# EAGLE library part ESP32-DEVKITC-32E (library freenove esp32 s3)
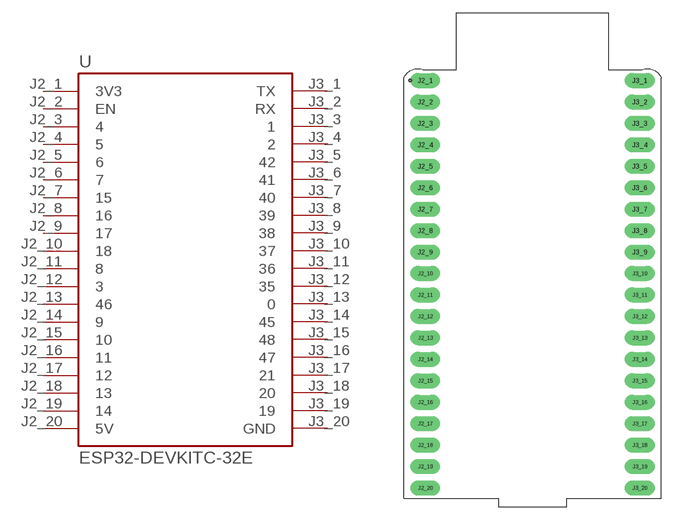
[diagram p0: symbol with the pads of MODULE_ESP32-DEVKITC-32E; footprint MODULE_ESP32-DEVKITC-32E]

Designator prefix U

## ESP32-DEVKITC-32E  [MODULE_ESP32-DEVKITC-32E]
J2_1  3V3  pwr
J2_2  EN  in
J2_3  4
J2_4  5
J2_5  6
J2_6  7
J2_7  15
J2_8  16
J2_9  17
J2_10  18
J2_11  8
J2_12  3
J2_13  46
J2_14  9  pwr
J2_15  10
J2_16  11
J2_17  12
J2_18  13
J2_19  14  pwr
J2_20  5V  pwr
J3_1  TX  pwr
J3_2  RX
J3_3  1
J3_4  2
J3_5  42
J3_6  41
J3_7  40  pwr
J3_8  39
J3_9  38
J3_10  37
J3_11  36
J3_12  35
J3_13  0
J3_14  45
J3_15  48
J3_16  47
J3_17  21
J3_18  20
J3_19  19
J3_20  GND

## Footprint MODULE_ESP32-DEVKITC-32E (pad centres in mm)
drill 1 pad 1.778 long: J2_1 -12.7,22.835; J2_2 -12.7,20.295; J2_3 -12.7,17.755; J2_4 -12.7,15.215; J2_5 -12.7,12.675; J2_6 -12.7,10.135; J2_7 -12.7,7.595; J2_8 -12.7,5.055; J2_9 -12.7,2.515; J2_10 -12.7,-0.025; J2_11 -12.7,-2.565; J2_12 -12.7,-5.105; J2_13 -12.7,-7.645; J2_14 -12.7,-10.185; J2_15 -12.7,-12.725; J2_16 -12.7,-15.265; J2_17 -12.7,-17.805; J2_18 -12.7,-20.345; J2_19 -12.7,-22.885; J2_20 -12.7,-25.425; J3_1 12.7,22.835; J3_2 12.7,20.295; J3_3 12.7,17.755; J3_4 12.7,15.215; J3_5 12.7,12.675; J3_6 12.7,10.135; J3_7 12.7,7.595; J3_8 12.7,5.055; J3_9 12.7,2.515; J3_10 12.7,-0.025; J3_11 12.7,-2.565; J3_12 12.7,-5.105; J3_13 12.7,-7.645; J3_14 12.7,-10.185; J3_15 12.7,-12.725; J3_16 12.7,-15.265; J3_17 12.7,-17.805; J3_18 12.7,-20.345; J3_19 12.7,-22.885; J3_20 12.7,-25.425